# Altium footprint library Burr-Brown Footprints.PcbLib: 201 footprints (part 13 of 13)
Each footprint in its own frame and in the unit in brackets; x right, y up, seen from the top. Pads: shape width x height; smd on the part's side, far side on the other; paste and mask are expansions set on the pad; w line width, h text height; cw(c..) or ccw(c..) is an arc to the next point about the centre after c.
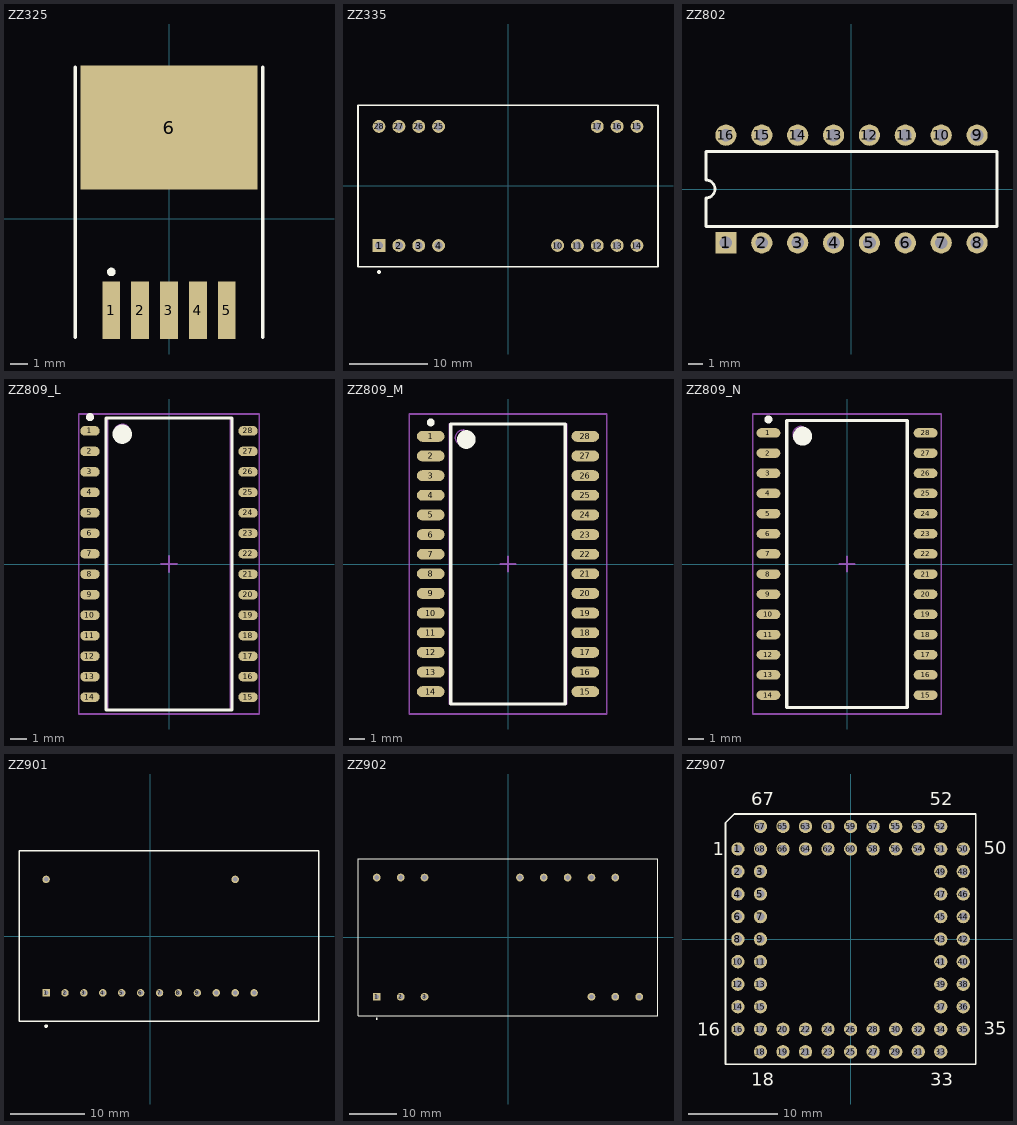
[diagram p12: the footprints below, top view; thin cyan lines are the x and y axes]

## ZZ325 [mm] "D2-PAK; 5 Leads; Body 15.4 (inc. leads) x 10.4 mm (LxW max)"
height 4.65
pads (6):
  rect 1.05x3.4 smd: 1(-3.4,-5.375) 2(-1.7,-5.375) 3(0,-5.375) 4(1.7,-5.375) 5(3.4,-5.375)
  rect 10.45x7.3 smd: 6(0,5.375)
Top Overlay:
  circle w0.25: c-3.4,-3.125 r0.125
  lines w0.2: -5.525,-6.975 -5.525,8.925 ; 5.525,-6.975 5.525,8.925

## ZZ335 [mm] "DIP; 28 Round Pins (12 Absent); Row Space 15.24 mm; Pitch 2.54 mm"
height 14.58
pads (16):
  rect 1.65x1.65 hole 1: 1(-16.51,-7.62)
  round 1.65 hole 1: 2(-13.97,-7.62) 3(-11.43,-7.62) 4(-8.89,-7.62) 10(6.35,-7.62) 11(8.89,-7.62) 12(11.43,-7.62) 13(13.97,-7.62) 14(16.51,-7.62) 15(16.51,7.62) 16(13.97,7.62) 17(11.43,7.62) 25(-8.89,7.62) 26(-11.43,7.62) 27(-13.97,7.62) 28(-16.51,7.62)
Top Overlay:
  circle w0.25: c-16.51,-11 r0.125
  lines w0.2: -19.2,-10.35 -19.2,-0.635 -19.2,10.35 19.2,10.35 19.2,-10.35 -19.2,-10.35

## ZZ802 [mm] "DIP, Plastic; 16 Leads; Row Spacing 7.62 mm; Pitch 2.54 mm"
height 5.09
pads (16):
  rect 1.5x1.5 hole 0.9: 1(-8.89,-3.81)
  round 1.5 hole 0.9: 2(-6.35,-3.81) 3(-3.81,-3.81) 4(-1.27,-3.81) 5(1.27,-3.81) 6(3.81,-3.81) 7(6.35,-3.81) 8(8.89,-3.81) 9(8.89,3.81) 10(6.35,3.81) 11(3.81,3.81) 12(1.27,3.81) 13(-1.27,3.81) 14(-3.81,3.81) 15(-6.35,3.81) 16(-8.89,3.81)
Top Overlay:
  lines w0.2: -10.3,-2.65 -10.3,-0.635 ccw(c-10.3,0) -10.3,0.635 -10.3,2.65 10.3,2.65 10.3,-2.65 -10.3,-2.65

## ZZ809_L [mm] "28-Pin Small Outline Integrated Circuit 1.27 mm Pitch, IPC High Density"
height 2.64
pads (28):
  oval 1.2x0.6 smd: 1(-4.9,8.255) 2(-4.9,6.985) 3(-4.9,5.715) 4(-4.9,4.445) 5(-4.9,3.175) 6(-4.9,1.905) 7(-4.9,0.635) 8(-4.9,-0.635) 9(-4.9,-1.905) 10(-4.9,-3.175) 11(-4.9,-4.445) 12(-4.9,-5.715) 13(-4.9,-6.985) 14(-4.9,-8.255) 15(4.9,-8.255) 16(4.9,-6.985) 17(4.9,-5.715) 18(4.9,-4.445) 19(4.9,-3.175) 20(4.9,-1.905) 21(4.9,-0.635) 22(4.9,0.635) 23(4.9,1.905) 24(4.9,3.175) 25(4.9,4.445) 26(4.9,5.715) 27(4.9,6.985) 28(4.9,8.255)
Top Overlay:
  circle w0.25: c-4.9,9.105 r0.125
  circle w0.6: c-2.9,8.05 r0.3
  lines w0.2: -3.9,-9.05 -3.9,9.05 3.9,9.05 3.9,-9.05 -3.9,-9.05
Mechanical 13:
  circle w0.1: c-2.9,8.165 r0.5
  lines w0.1: -3.8,-9.065 -3.8,9.065 3.8,9.065 3.8,-9.065 -3.8,-9.065
Mechanical 15:
  lines w0.1: -0.5,0 0.5,0 ; 0,-0.5 0,0.5 ; -5.6,-9.3 -5.6,9.3 5.6,9.3 5.6,-9.3 -5.6,-9.3
3D body: height 2.64, standoff 0, extent -3.8,-9.065 3.8,9.065

## ZZ809_M [mm] "28-Pin Small Outline Integrated Circuit 1.27 mm Pitch, IPC Low Density"
height 2.64
pads (28):
  oval 1.8x0.7 smd: 1(-5,8.255) 2(-5,6.985) 3(-5,5.715) 4(-5,4.445) 5(-5,3.175) 6(-5,1.905) 7(-5,0.635) 8(-5,-0.635) 9(-5,-1.905) 10(-5,-3.175) 11(-5,-4.445) 12(-5,-5.715) 13(-5,-6.985) 14(-5,-8.255) 15(5,-8.255) 16(5,-6.985) 17(5,-5.715) 18(5,-4.445) 19(5,-3.175) 20(5,-1.905) 21(5,-0.635) 22(5,0.635) 23(5,1.905) 24(5,3.175) 25(5,4.445) 26(5,5.715) 27(5,6.985) 28(5,8.255)
Top Overlay:
  circle w0.25: c-5,9.155 r0.125
  circle w0.6: c-2.7,8.05 r0.3
  lines w0.2: -3.7,-9.05 -3.7,9.05 3.7,9.05 3.7,-9.05 -3.7,-9.05
Mechanical 13:
  circle w0.1: c-2.9,8.165 r0.5
  lines w0.1: -3.8,-9.065 -3.8,9.065 3.8,9.065 3.8,-9.065 -3.8,-9.065
Mechanical 15:
  lines w0.1: -0.5,0 0.5,0 ; 0,-0.5 0,0.5 ; -6.4,-9.7 -6.4,9.7 6.4,9.7 6.4,-9.7 -6.4,-9.7
3D body: height 2.64, standoff 0, extent -3.8,-9.065 3.8,9.065

## ZZ809_N [mm] "28-Pin Small Outline Integrated Circuit 1.27 mm Pitch, IPC Medium Density"
height 2.64
pads (28):
  oval 1.5x0.6 smd: 1(-4.95,8.255) 2(-4.95,6.985) 3(-4.95,5.715) 4(-4.95,4.445) 5(-4.95,3.175) 6(-4.95,1.905) 7(-4.95,0.635) 8(-4.95,-0.635) 9(-4.95,-1.905) 10(-4.95,-3.175) 11(-4.95,-4.445) 12(-4.95,-5.715) 13(-4.95,-6.985) 14(-4.95,-8.255) 15(4.95,-8.255) 16(4.95,-6.985) 17(4.95,-5.715) 18(4.95,-4.445) 19(4.95,-3.175) 20(4.95,-1.905) 21(4.95,-0.635) 22(4.95,0.635) 23(4.95,1.905) 24(4.95,3.175) 25(4.95,4.445) 26(4.95,5.715) 27(4.95,6.985) 28(4.95,8.255)
Top Overlay:
  circle w0.25: c-4.95,9.105 r0.125
  circle w0.6: c-2.8,8.05 r0.3
  lines w0.2: -3.8,-9.05 -3.8,9.05 3.8,9.05 3.8,-9.05 -3.8,-9.05
Mechanical 13:
  circle w0.1: c-2.9,8.165 r0.5
  lines w0.1: -3.8,-9.065 -3.8,9.065 3.8,9.065 3.8,-9.065 -3.8,-9.065
Mechanical 15:
  lines w0.1: -0.5,0 0.5,0 ; 0,-0.5 0,0.5 ; -5.95,-9.45 -5.95,9.45 5.95,9.45 5.95,-9.45 -5.95,-9.45
3D body: height 2.64, standoff 0, extent -3.8,-9.065 3.8,9.065

## ZZ901 [mm] "DIP; 28 Rectangular pins (14 Absent); Row Space 15.24 mm; Pitch 2.54 mm"
height 22.6
pads (14):
  rect 1x1 hole 0.6: 1(-13.97,-7.62)
  round 1 hole 0.6: 2(-11.43,-7.62) 3(-8.89,-7.62) 4(-6.35,-7.62) 5(-3.81,-7.62) 6(-1.27,-7.62) 7(1.27,-7.62) 8(3.81,-7.62) 9(6.35,-7.62) 10(8.89,-7.62) 11(11.43,-7.62) 12(13.97,-7.62) 18(11.43,7.62) 28(-13.97,7.62)
Top Overlay:
  circle w0.25: c-13.97,-12.1 r0.125
  lines w0.2: -17.61,-11.45 -17.61,-0.635 -17.61,11.45 22.69,11.45 22.69,-11.45 -17.61,-11.45

## ZZ902 [mm] "DIP; 24 Round Pins (10 Absent); Row Space 25.4 mm; Pitch 5.08 mm"
height 17.3
pads (14):
  rect 1.65x1.65 hole 1: 1(-27.94,-12.7)
  round 1.65 hole 1: 2(-22.86,-12.7) 3(-17.78,-12.7) 10(17.78,-12.7) 11(22.86,-12.7) 12(27.94,-12.7) 14(22.86,12.7) 15(17.78,12.7) 16(12.7,12.7) 17(7.62,12.7) 18(2.54,12.7) 22(-17.78,12.7) 23(-22.86,12.7) 24(-27.94,12.7)
Top Overlay:
  circle w0.25: c-27.94,-17.4 r0.125
  lines w0.2: -31.95,-16.75 -31.95,-0.635 -31.95,16.75 31.95,16.75 31.95,-16.75 -31.95,-16.75

## ZZ907 [mm] "68-Pin Pin Grid Array 2.54 mm Pitch"
height 4.45
pads (68):
  round 1.5 hole 0.9: 1(-12.7,10.16) 2(-12.7,7.62) 3(-10.16,7.62) 4(-12.7,5.08) 5(-10.16,5.08) 6(-12.7,2.54) 7(-10.16,2.54) 8(-12.7,0) 9(-10.16,0) 10(-12.7,-2.54) 11(-10.16,-2.54) 12(-12.7,-5.08) 13(-10.16,-5.08) 14(-12.7,-7.62) 15(-10.16,-7.62) 16(-12.7,-10.16) 17(-10.16,-10.16) 18(-10.16,-12.7) 19(-7.62,-12.7) 20(-7.62,-10.16) 21(-5.08,-12.7) 22(-5.08,-10.16) 23(-2.54,-12.7) 24(-2.54,-10.16) 25(0,-12.7) 26(0,-10.16) 27(2.54,-12.7) 28(2.54,-10.16) 29(5.08,-12.7) 30(5.08,-10.16) 31(7.62,-12.7) 32(7.62,-10.16) 33(10.16,-12.7) 34(10.16,-10.16) 35(12.7,-10.16) 36(12.7,-7.62) 37(10.16,-7.62) 38(12.7,-5.08) 39(10.16,-5.08) 40(12.7,-2.54) 41(10.16,-2.54) 42(12.7,0) 43(10.16,0) 44(12.7,2.54) 45(10.16,2.54) 46(12.7,5.08) 47(10.16,5.08) 48(12.7,7.62) 49(10.16,7.62) 50(12.7,10.16) 51(10.16,10.16) 52(10.16,12.7) 53(7.62,12.7) 54(7.62,10.16) 55(5.08,12.7) 56(5.08,10.16) 57(2.54,12.7) 58(2.54,10.16) 59(0,12.7) 60(0,10.16) 61(-2.54,12.7) 62(-2.54,10.16) 63(-5.08,12.7) 64(-5.08,10.16) 65(-7.62,12.7) 66(-7.62,10.16) 67(-10.16,12.7) 68(-10.16,10.16)
Top Overlay:
  lines w0.2: -14.1,-14.1 -14.1,13.1 -13.1,14.1 14.1,14.1 14.1,-14.1 -14.1,-14.1
  text "67" at -11.18,15.08 h1.5
  text "52" at 8.9,15.08 h1.5
  text "50" at 15,9.55 h1.5
  text "35" at 15,-10.77 h1.5
  text "33" at 8.96,-16.55 h1.5
  text "16" at -17.31,-10.87 h1.5
  text "1" at -15.51,9.45 h1.5
  text "18" at -11.22,-16.55 h1.5